# Altium schematic symbol library UltraZOhm_CarrierBoard.SCHLIB: 127 symbols (part 2 of 2)
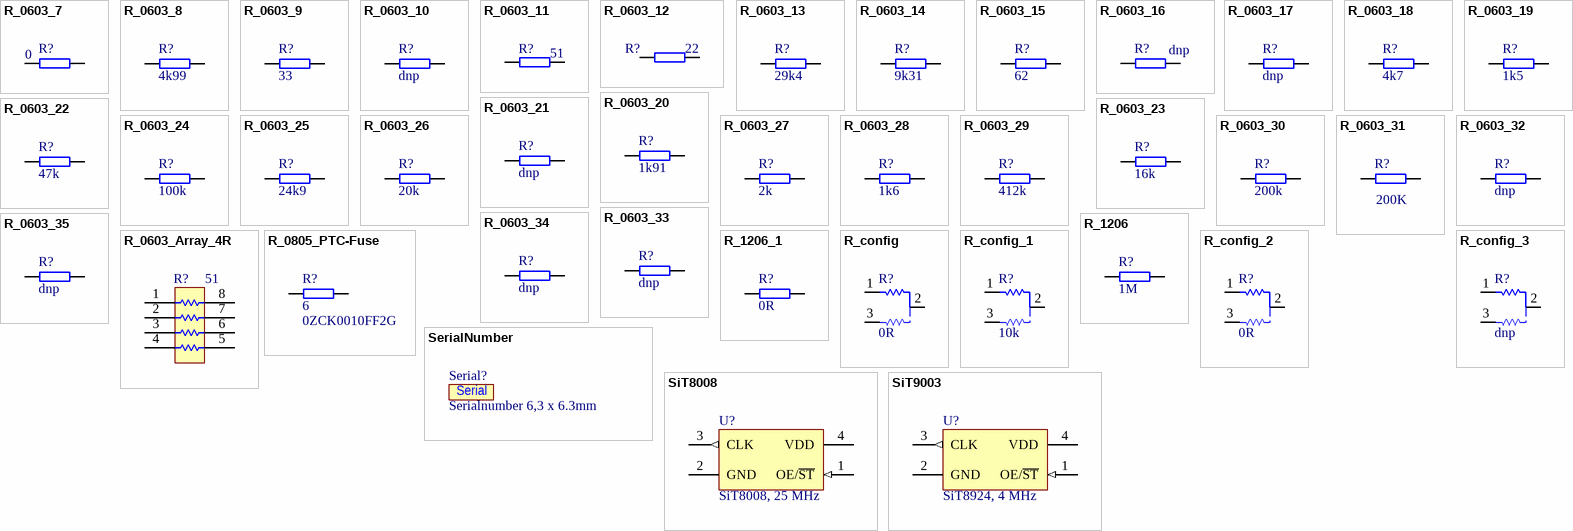
[diagram p5: symbols R_0603_7 to SiT9003]

## R_0603_23
designator R?, comment 16k
SMD Resistor 0603; MPN: CRCW060316K0FKEA; Tolerance: 1%; Voltage: 75V; Power: 100mW; MF: Vishay; Package: 0603; Value: 16k; Created: 2018_09_06_AGeiger; Supplier 1: Farnell; Supplier Part Number 1: 2138433
footprint R_0603_N (SMD Resistor, Body 1.6x0.8mm, IPC Medium Density)
pins: 1, 2

## R_0603_24
designator R?, comment 100k
SMD Resistor 0603; MPN: CRCW0603100KFKEA; Tolerance: ±1%; Voltage: 75V; Power: 100mW; MF: Vishay; Package: 0603; Value: 100k; Created: 2018_09_06_AGeiger; Supplier 1: Farnell; Supplier Part Number 1: 1469649
footprint R_0603_N (SMD Resistor, Body 1.6x0.8mm, IPC Medium Density)
pins: 1, 2

## R_0603_25
designator R?, comment 24k9
SMD Resistor 0603; MPN: CRCW060324K9FKEA; Tolerance: ±1%; Voltage: 75V; Power: 100mW; MF: Vishay; Package: 0603; Value: 24k9; Created: 2018_09_06_AGeiger; Supplier 1: Farnell; Supplier Part Number 1: 1469785
footprint R_0603_N (SMD Resistor, Body 1.6x0.8mm, IPC Medium Density)
pins: 1, 2

## R_0603_26
designator R?, comment 20k
SMD Resistor 0603; MPN: CR0603-FX-2002ELF; Tolerance: ±1%; Voltage: 50V; Power: 100mW; MF: Bourns; Package: 0603; Value: 20k; Created: 2018_09_06_AGeiger; Supplier 1: Farnell; Supplier Part Number 1: 2333523
footprint R_0603_N (SMD Resistor, Body 1.6x0.8mm, IPC Medium Density)
pins: 1, 2

## R_0603_27
designator R?, comment 2k
SMD Resistor 0603; MPN: MCWR06X2001FTL; Tolerance: ±1%; Voltage: 50V; Power: 100mW; MF: Multicomp; Package: 0603; Value: 2k; Created: 2018_09_06_AGeiger; Supplier 1: Farnell; Supplier Part Number 1: 2447319
footprint R_0603_N (SMD Resistor, Body 1.6x0.8mm, IPC Medium Density)
pins: 1, 2

## R_0603_28
designator R?, comment 1k6
SMD Resistor 0603; MPN: ERJ3EKF1601V; Tolerance: ±1%; Voltage: 75V; Power: 100mW; MF: Panasonic; Package: 0603; Value: 1k6; Created: 2018_09_06_AGeiger; Supplier 1: Farnell; Supplier Part Number 1: 2303159
footprint R_0603_N (SMD Resistor, Body 1.6x0.8mm, IPC Medium Density)
pins: 1, 2

## R_0603_29
designator R?, comment 412k
SMD Resistor 0603; MPN: ERJ3EKF4123V; Tolerance: ±1%; Voltage: 75V; Power: 100mW; MF: Panasonic; Package: 0603; Value: 412k; Created: 2018_09_06_AGeiger; Supplier 1: Farnell; Supplier Part Number 1: 2303283
footprint R_0603_N (SMD Resistor, Body 1.6x0.8mm, IPC Medium Density)
pins: 1, 2

## R_0603_30
designator R?, comment 200k
SMD Resistor 0603; MPN: MCWR06X2003FTL; Tolerance: 1%; Voltage: 50V; Power: 100mW; MF: Multicomp; Package: 0603; Value: 200k; Created: 2018_09_06_AGeiger; Supplier 1: Farnell; Supplier Part Number 1: 2447291
footprint R_0603_N (SMD Resistor, Body 1.6x0.8mm, IPC Medium Density)
pins: 1, 2

## R_0603_31
designator R?, comment 200K
SMD Resistor 0603; Tolerance: 1%; Voltage: tbd; Package: 0603; Value: 200K; Created: 2018_09_06_AGeiger; Power: tbd; Supplier 1: *; Supplier Part Number 1: *
footprint R_0603_N (SMD Resistor, Body 1.6x0.8mm, IPC Medium Density)
footprint R_0603_N (SMD Resistor, Body 1.6x0.8mm, IPC Medium Density)
pins: 1, 2

## R_0603_32
designator R?, comment dnp
SMD Resistor 0603; MPN: MCSR06X4991FTL; Value: 4k99; Tolerance: 1%; Voltage: 75V; Power: 100mW; MF: Multicomp; Assembly: dnp; Package: 0603; Created: 2018_09_06_AGeiger; Supplier 1: Farnell; Supplier Part Number 1: 2074271
footprint R_0603_N (SMD Resistor, Body 1.6x0.8mm, IPC Medium Density)
pins: 1, 2

## R_0603_33
designator R?, comment dnp
SMD Resistor 0603; MPN: MCWR06X2200FTL; Value: 220; Tolerance: 1%; Voltage: 50V; Power: 100mW; MF: Multicomp; Package: 0603; Created: 2019_10_12_AGeiger; Supplier 1: Farnell; Supplier Part Number 1: 2447298
footprint R_0603_N (SMD Resistor, Body 1.6x0.8mm, IPC Medium Density)
pins: 1, 2

## R_0603_34
designator R?, comment dnp
SMD Resistor 0603; MPN: MCWR06X2003FTL; Value: 200k; Tolerance: 1%; Voltage: 50V; Power: 100mW; MF: Multicomp; Package: 0603; Created: 2018_09_06_AGeiger; Supplier 1: Farnell; Supplier Part Number 1: 2447291
footprint R_0603_N (SMD Resistor, Body 1.6x0.8mm, IPC Medium Density)
pins: 1, 2

## R_0603_35
designator R?, comment dnp
SMD Resistor 0603; Value: 200K; Tolerance: 1%; Voltage: tbd; Package: 0603; Created: 2018_09_06_AGeiger; Power: tbd; Supplier 1: *; Supplier Part Number 1: *
footprint R_0603_N (SMD Resistor, Body 1.6x0.8mm, IPC Medium Density)
footprint R_0603_N (SMD Resistor, Body 1.6x0.8mm, IPC Medium Density)
pins: 1, 2

## R_0603_Array_4R
designator R?, comment 51
Chip Resistor Array; MPN: EXB-38V510JV; MF: Panasonic; Package: 0603x4-Array; Created: 2018_10_30_AGeiger; Value: 51; Supplier Part Number 1: 667-EXB-38V510JV; Supplier 1: Mouser; ComponentLink1Description: Datasheet; ComponentLink1URL: https://www.mouser.de/datasheet/2/315/AOC0000C14-1108062.pdf
footprint PNSC-EXB-38V103JV-8_L (Chip Array, ConvexS, 8-Leads, Pitch 0.80mm, Body 3.40x1.75mm, IPC High Density)
footprint PNSC-EXB-38V103JV-8_M (Chip Array, ConvexS, 8-Leads, Pitch 0.80mm, Body 3.40x1.75mm, IPC Low Density)
footprint PNSC-EXB-38V103JV-8_N (Chip Array, ConvexS, 8-Leads, Pitch 0.80mm, Body 3.40x1.75mm, IPC Medium Density)
pins: 1, 2, 3, 4, 5, 6, 7, 8

## R_0805_PTC-Fuse
designator R?, comment 6  MPN: 0ZCK0010FF2G
Resettable Fuse PTC, Trip Current 300mA, Current Rating 100mA; MF: Bel Fuse; Value: 6; Created: 2018_09_14_AGeiger; Supplier 1: Mouser; Supplier Part Number 1: 530-0ZCK0010FF2G; HelpURL: https://www.mouser.de/datasheet/2/643/0ZCK_Nov2016-1135081.pdf; Package: 0805
footprint 0805_PTC_FUSE (Surface Mount PTC, Body 2.0x1.2mm, Height 1.0mm, IPC Medium Density)
pins: 1, 2

## R_1206
designator R?, comment 1M
SMD Resistor 1206; MPN: KTR18EZPF1004; Tolerance: ±1%; MF: ROHM; Voltage: 500V; Power: 250mW; Value: 1M; Created: 2018_07_20_AGeiger; Package: 1206; Supplier 1: Farnell; Supplier Part Number 1: 2802466
footprint RESC3216X65N
pins: 1, 2

## R_1206_1
designator R?, comment 0R
SMD Resistor 1206; MPN: MCMR12X000 PTL; Tolerance: ±0.05Ohm; MF: Multicomp; Value: 0R; Created: 2018_07_20_AGeiger; Package: 1206; Supplier 1: Farnell; Supplier Part Number 1: 2073874
footprint RESC3216X65N
pins: 1, 2

## R_config
designator R?, comment 0R
Solder 0603 resistor/jumper between pads 1 and 2 for standard function. Solter resistor between pads 2 and 3 for alternative function; MPN: MCMR06X000 PTL; MF: Multicomp; Voltage: 75V; Power: 100mW; Tolerance: ±0.05Ohm; Created: 2018_09_04_AGeiger; Value: 0R; Package: 0603; Supplier Part Number 1: 2073345; Supplier 1: Farnell
footprint 0603_Config (0603 3-Pin Config Footprint)
pins: 1, 2, 3

## R_config_1
designator R?, comment 10k
Solder 0603 resistor/jumper between pads 1 and 2 for standard function. Solter resistor between pads 2 and 3 for alternative function; MPN: MCWR06X1002FTL; MF: Multicomp; Voltage: 50V; Power: 100mW; Tolerance: 1%; Created: 2018_09_04_AGeiger; Value: 10k; Package: 0603; Supplier Part Number 1: 2447230; Supplier 1: Farnell
footprint 0603_Config (0603 3-Pin Config Footprint)
pins: 1, 2, 3

## R_config_2
designator R?, comment 0R
Solder resistor/jumper between pads 1 and 2 for standard function. Solder resistor between pads 2 and 3 for alternative function; MPN: MCMR12X000 PTL; MF: Multicomp; Tolerance: ±0.05Ohm; Created: 2018_09_04_AGeiger; Value: 0R; Package: 1206; Supplier Part Number 1: 2073874; Supplier 1: Farnell
footprint 0603_Config (0603 3-Pin Config Footprint)
footprint 1206_Config (1206 3-Pin Config Footprint)
pins: 1, 2, 3

## R_config_3
designator R?, comment dnp
Solder 0603 resistor/jumper between pads 1 and 2 for standard function. Solter resistor between pads 2 and 3 for alternative function; MPN: MCWR06X1002FTL; Value: 10k; MF: Multicomp; Voltage: 50V; Power: 100mW; Tolerance: 1%; Assembly: dnp; Created: 2018_09_04_AGeiger; Package: 0603; Supplier Part Number 1: 2447230; Supplier 1: Farnell
footprint 0603_Config (0603 3-Pin Config Footprint)
pins: 1, 2, 3

## SerialNumber
designator Serial?, comment Serialnumber 6,3 x 6.3mm  (no BOM)
Created: 2018_09_18_AGeiger; Value: Serialnumber 6,3 x 6.3mm
footprint Serial_6.3x6.3mm
text: Serial

## SiT8008
designator U?, comment SiT8008, 25 MHz
SiT8008BI-73-18S-25.000000G; Voltage: 1.8V; MF: SiTime; Package: 2.0  x 1.6mm; HelpURL: https://www.sitime.com/products/lvcmos-oscillators/sit8008; Value: SiT8008, 25 MHz; MPN: SIT8008BI-73-18S-25.000000G; Created: 2018_07_17_AGeiger; ComponentLink1Description: Datasheet; ComponentLink1URL: https://4donline.ihs.com/images/VipMasterIC/IC/SIME/SIME-S-A0002505729/SIME-S-A0002505729-1.pdf?hkey=52A5661711E402568146F3353EA87419; Supplier Part Number 2: SIT8008BI-73-18S-25.000000G; Supplier 2: Digi-Key; Supplier 1: Mouser; Supplier Part Number 1: 788-8008BI7318S25.G
footprint 2016
pins: 1 OE/~{ST} (in), 2 GND (power), 3 CLK (out), 4 VDD (power)

## SiT9003
designator U?, comment SiT8924, 4 MHz
Automotive AEC-Q100 Oscillator 4MHz; MPN: SIT8924AM-12-33N-4.000000G; Voltage: 3.3V; MF: SiTime; Package: 2.5  x 2.0mm; ComponentLink1URL: https://media.digikey.com/pdf/Data%20Sheets/SiTime%20PDFs/SIT8924A.pdf; Value: SiT8924, 4 MHz; Created: 2019_10_06_AGeiger; Supplier 1: Digi-Key; Supplier Part Number 1: 1473-1689-1-ND; ComponentLink1Description: Datasheet
footprint 2520_SiTime (Standard Clock Oscillators, 2.5mm x 2mm)
pins: 1 OE/~{ST} (in), 2 GND (power), 3 CLK (out), 4 VDD (power)

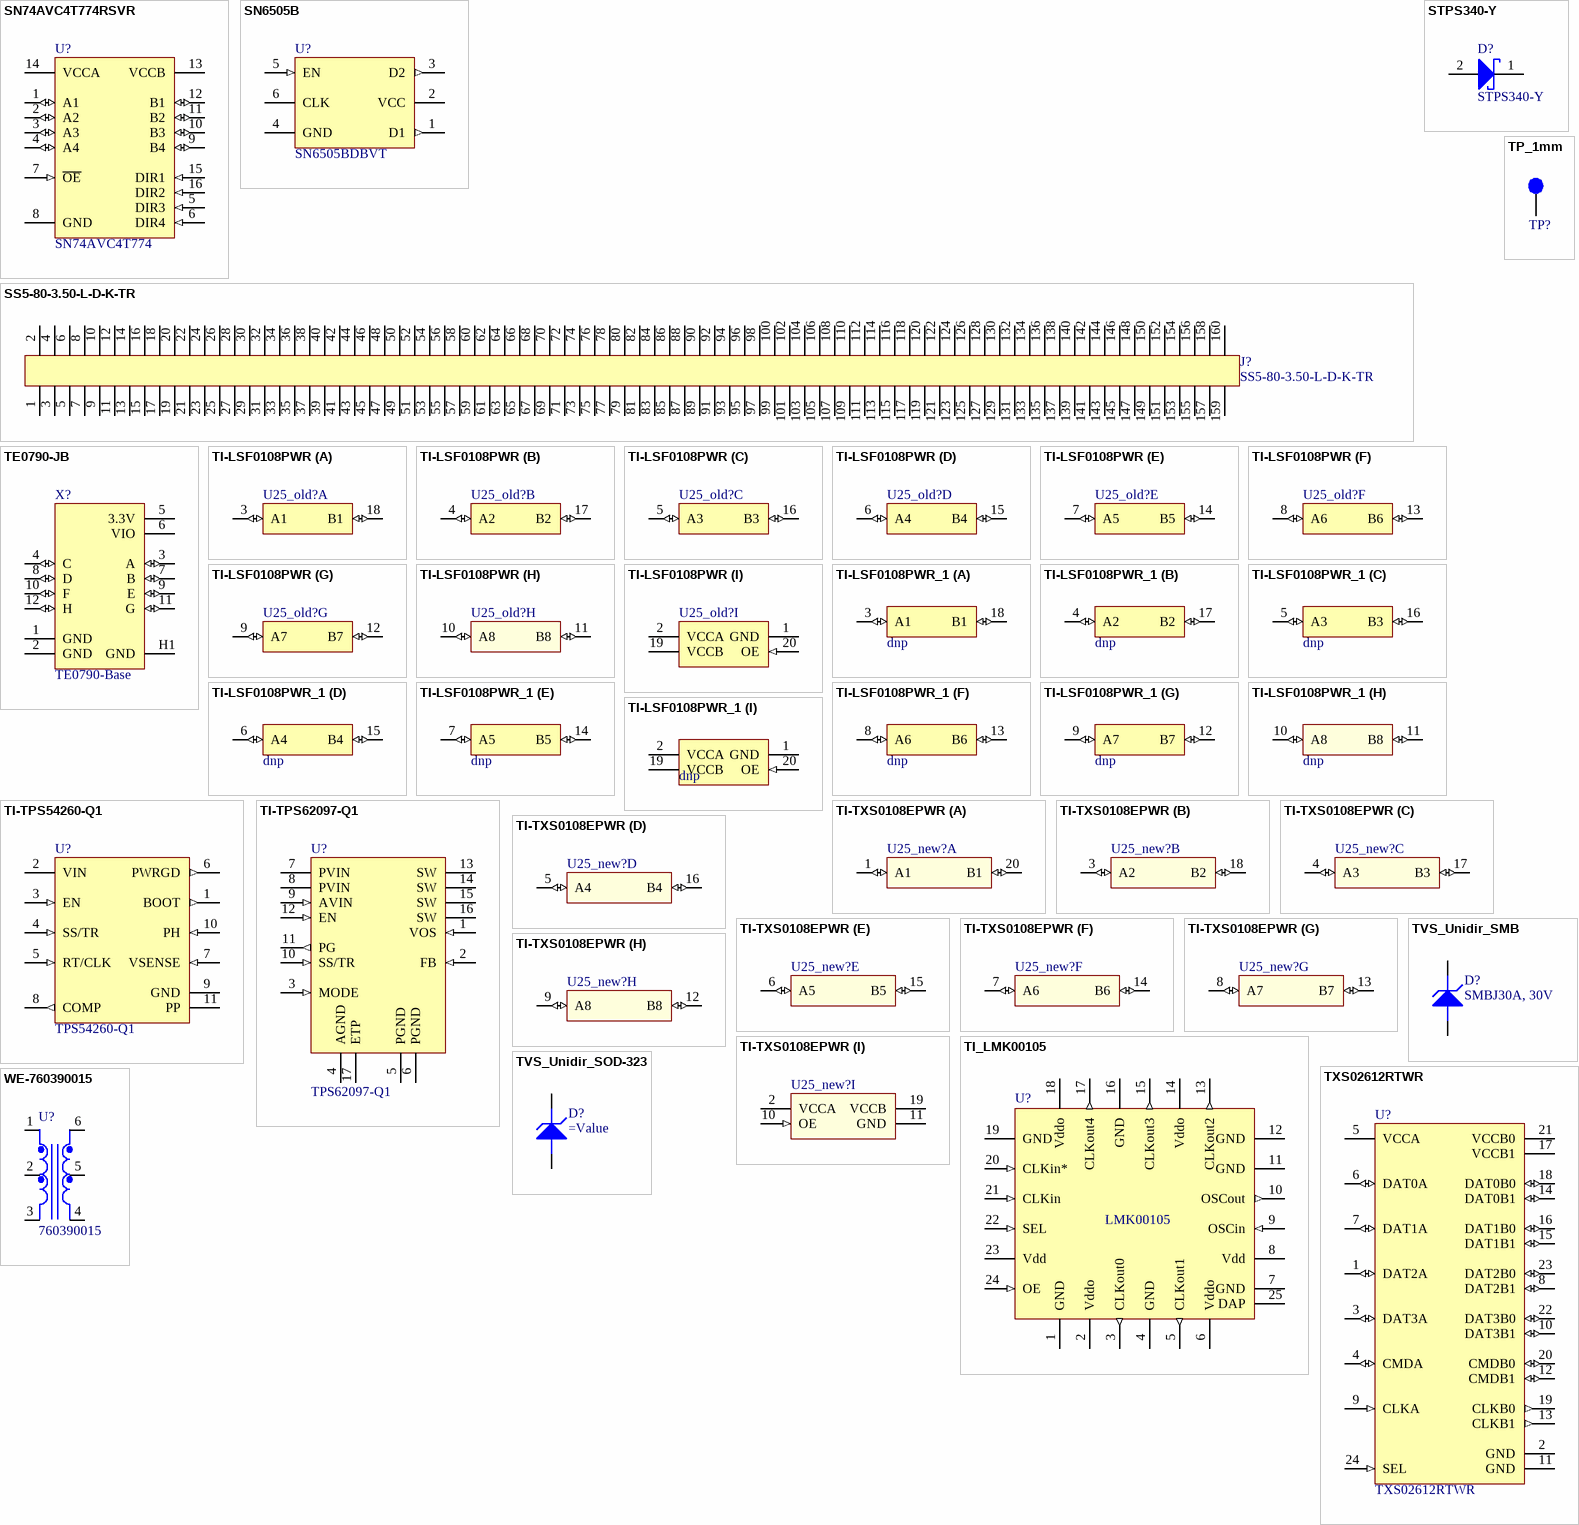
[diagram p3: symbols SN74AVC4T774RSVR to WE-760390015]

## SN74AVC4T774RSVR
designator U?, comment SN74AVC4T774
4-Bit Dual-Supply Bus Transceiver With Configurable Voltage-Level Shifting and 3-State Outputs With Independent Direction Control Inputs; MPN: SN74AVC4T774RSVR; MF: Texas Instruments; Package: UQFN-16; HelpURL: http://www.ti.com/product/SN74AVC4T774; Value: SN74AVC4T774; Created: 2018_09_13_AGeiger; Supplier Part Number 1: 595-SN74AVC4T774RSVR; Supplier 1: Mouser; ComponentLink1Description: Datasheet; ComponentLink1URL: http://www.ti.com/lit/ds/symlink/sn74avc4t774.pdf
footprint QFN40P260X180X55-16N
pins: 1 A1 (io), 2 A2 (io), 3 A3 (io), 4 A4 (io), 5 DIR3 (in), 6 DIR4 (in), 7 ~{OE} (in), 8 GND (power), 9 B4 (io), 10 B3 (io), 11 B2 (io), 12 B1 (io), 13 VCCB (power), 14 VCCA (power), 15 DIR1 (in), 16 DIR2 (in)

## SN6505B
designator U?, comment SN6505BDBVT
SN6505 Low-Noise 1-A Transformer Drivers for Isolated Power Supplies; MF: Texas Instruments; Created: 2018_09_12_AGeiger; Value: SN6505BDBVT; Package: SOT-23 6-pin; Supplier 1: Farnell; Supplier Part Number 1: 2507108; MPN: SN6505BDBVT
footprint TI_SOT23_6-Leads (SOT23, 6-Leads, Body 3.05x1.75mm, Pitch 0.95mm, IPC Medium Density)
pins: 1 D1 (out) "The BOOST pin is used to provide a drive voltage, higher than the input voltage, to the internal bipolar NPN power switch.", 2 VCC (power) "The SW pin is the output of the internal power switch. Connect this pin to the inductor, catch diode and boost capacitor.", 3 D2 (out), 4 GND (power), 5 EN (in), 6 CLK (power)

## SS5-80-3.50-L-D-K-TR
designator J?
Samtec Ultra Fine Pitch Socket REF192552-01, 160 Pins; Value: SS5-80-3.50-L-D-K-TR; Created: 2018_06_25_AGeiger; MF: SAMTEC; MPN: SS5-80-3.50-L-D-K-TR; Supplier Part Number 2: SAM15086CT-ND; Supplier 2: Digi-Key; Supplier Part Number 1: 200-SS5803.50LDKTR; Supplier 1: Mouser
footprint SS5-80-3.50-L-D-K-TR
pins: 1, 2, 3, 4, 5, 6, 7, 8, 9, 10, 11, 12, 13, 14, 15, 16, 17, 18, 19, 20, 21, 22, 23, 24, 25, 26, 27, 28, 29, 30, 31, 32, 33, 34, 35, 36, 37, 38, 39, 40, 41, 42, 43, 44, 45, 46, 47, 48, 49, 50, 51, 52, 53, 54, 55, 56, 57, 58, 59, 60, 61, 62, 63, 64, 65, 66, 67, 68, 69, 70, 71, 72, 73, 74, 75, 76, 77, 78, 79, 80, 81, 82, 83, 84, 85, 86, 87, 88, 89, 90, 91, 92, 93, 94, 95, 96, 97, 98, 99, 100, 101, 102, 103, 104, 105, 106, 107, 108, 109, 110, 111, 112, 113, 114, 115, 116, 117, 118, 119, 120, 121, 122, 123, 124, 125, 126, 127, 128, 129, 130, 131, 132, 133, 134, 135, 136, 137, 138, 139, 140, 141, 142, 143, 144, 145, 146, 147, 148, 149, 150, 151, 152, 153, 154, 155, 156, 157, 158, 159, 160

## STPS340-Y
designator D?
Automotive power Schottky rectifier; MPN: STPS340UY; MF: ST Microelectronics; Package: SMB; Created: 2018_09_20_AGeiger; Supplier 1: Mouser; Supplier Part Number 1: 511-STPS340UY; Value: STPS340-Y; Supplier 2: Digi-Key; Supplier Part Number 2: 497-13432-1-ND; ComponentLink1URL: https://www.mouser.de/datasheet/2/389/stps340-y-956644.pdf; ComponentLink1Description: Datasheet
footprint SMB (DO-214-AA/SMB; 2 C-Bend Leads; Body 5.3 x 3.6 mm, inc. leads (LxW))
pins: 1 K, 2 A

## TE0790-JB
designator X?, comment TE0790-Base
MPN: TE0790-02; MF: Trenz Electronic; Created: 2018_09_04_AGeiger; Value: TE0790-Base; Supplier 1: Trenz Electronic; Supplier 2: Digi-Key; Supplier Part Number 1: TE0790-02; Supplier Part Number 2: 1686-1023-ND
footprint TE0790-Base
pins: 1 GND (power), 2 GND (power), 3 A (io), 4 C (io), 5 3.3V (power), 6 VIO (power), 7 B (io), 8 D (io), 9 E (io), 10 F (io), 11 G (io), 12 H (io), H1 GND (power)

## TI-LSF0108PWR
designator U25_old?, comment LSF0108-Q1  (value not drawn)
Automotive 8-Channel Mulit-Voltage Level Translator; MPN: LSF0108QPWRQ1; MF: Texas Instruments; Value: LSF0108-Q1; Created: 2018_09_17_AGeiger; Supplier 1: Mouser; Supplier Part Number 1: 595-LSF0108QPWRQ1; ComponentLink1Description: Datasheet; ComponentLink1URL: http://www.ti.com/lit/ds/symlink/lsf0108-q1.pdf
footprint TI_PW_R-PDSO-G20_L (SOP, 20-Leads, Body 6.6x4.5mm, Pitch 0.65mm, IPC High Density)
footprint TI_PW_R-PDSO-G20_M (SOP, 20-Leads, Body 6.6x4.5mm, Pitch 0.65mm, IPC Low Density)
footprint TI_PW_R-PDSO-G20_N (SOP, 20-Leads, Body 6.6x4.5mm, Pitch 0.65mm, IPC Medium Density)
part A pins: 3 A1 (io), 18 B1 (io)
part B pins: 4 A2 (io), 17 B2 (io)
part C pins: 5 A3 (io), 16 B3 (io)
part D pins: 6 A4 (io), 15 B4 (io)
part E pins: 7 A5 (io), 14 B5 (io)
part F pins: 8 A6 (io), 13 B6 (io)
part G pins: 9 A7 (io), 12 B7 (io)
part H pins: 10 A8 (io), 11 B8 (io)
part I pins: 1 GND (power), 2 VCCA (power), 19 VCCB (power), 20 OE (in)

## TI-LSF0108PWR_1
designator U25_old?, comment dnp
Automotive 8-Channel Mulit-Voltage Level Translator; MPN: LSF0108QPWRQ1; Value: LSF0108-Q1; MF: Texas Instruments; Created: 2018_09_17_AGeiger; Supplier 1: Mouser; Supplier Part Number 1: 595-LSF0108QPWRQ1; ComponentLink1Description: Datasheet; ComponentLink1URL: http://www.ti.com/lit/ds/symlink/lsf0108-q1.pdf
footprint TI_PW_R-PDSO-G20_L (SOP, 20-Leads, Body 6.6x4.5mm, Pitch 0.65mm, IPC High Density)
footprint TI_PW_R-PDSO-G20_M (SOP, 20-Leads, Body 6.6x4.5mm, Pitch 0.65mm, IPC Low Density)
footprint TI_PW_R-PDSO-G20_N (SOP, 20-Leads, Body 6.6x4.5mm, Pitch 0.65mm, IPC Medium Density)
part A pins: 3 A1 (io), 18 B1 (io)
part B pins: 4 A2 (io), 17 B2 (io)
part C pins: 5 A3 (io), 16 B3 (io)
part D pins: 6 A4 (io), 15 B4 (io)
part E pins: 7 A5 (io), 14 B5 (io)
part F pins: 8 A6 (io), 13 B6 (io)
part G pins: 9 A7 (io), 12 B7 (io)
part H pins: 10 A8 (io), 11 B8 (io)
part I pins: 1 GND (power), 2 VCCA (power), 19 VCCB (power), 20 OE (in)

## TI-TPS54260-Q1
designator U?, comment TPS54260-Q1
3.5V to 60V Step-Down Converter With Eco-mode; MPN: TPS54260QDGQRQ1; MF: Texas Instruments; Created: 2018_09_20_AGeiger; Value: TPS54260-Q1; Supplier Part Number 1: 595-TPS54260QDGQRQ1; Supplier 1: Mouser; Supplier Part Number 2: 296-28183-1-ND; Supplier 2: Digi-Key; ComponentLink1URL: http://www.ti.com/lit/ds/symlink/tps54260-q1.pdf; ComponentLink1Description: Datasheet; Package: HVSSOP-10
footprint TSOP-10_DGQ0010D_L (TSOP, 10-Leads, Body 3.1x3.1mm, Pitch 0.5mm, Thermal Pad 1.88x1.57mm, IPC High Density)
footprint TSOP-10_DGQ0010D_M (TSOP, 10-Leads, Body 3.1x3.1mm, Pitch 0.5mm, Thermal Pad 1.88x1.57mm, IPC Low Density)
footprint TSOP-10_DGQ0010D_N (TSOP, 10-Leads, Body 3.1x3.1mm, Pitch 0.5mm, Thermal Pad 1.88x1.57mm, IPC Medium Density)
pins: 1 BOOT (out) "A bootstrap capacitor is required between BOOT and PH. If the voltage on this capacitor is below the minimum required by the output device, the output is forced to switch off until the capacitor is refreshed.", 2 VIN (power) "Input supply voltage, 3.5 V to 60 V.", 3 EN (in) "Enable pin, internal pull-up current source. Pull below 1.2V to disable. Float to enable. Adjust the input undervoltage lockout with two resistors.", 4 SS/TR (in) "Slow-start and Tracking. An external capacitor connected to this pin sets the output rise time. Since the voltage on this pin overrides the internal reference, it can be used for tracking and sequencing.", 5 RT/CLK (in) "Resistor Timing and External Clock. An internal amplifier holds this pin at a fixed voltage when using an external resistor to ground to set the switching frequency. If the pin is pulled above the PLL upper threshold, a mode (See Datasheet)", 6 PWRGD (out) "An open drain output, asserts low if output voltage is low due to thermal shutdown, dropout, over-voltage or EN shut down.", 7 VSENSE (in) "Inverting node of the transconductance ( gm) error amplifier.", 8 COMP (out) "Error amplifier output, and input to the output switch current comparator. Connect frequency compensation components to this pin.", 9 GND (power) "Ground", 10 PH (in) "The source of the internal high-side power MOSFET.", 11 PP (power) "GND pin must be electrically connected to the exposed pad on the printed circuit board for proper operation."

## TI-TPS62097-Q1
designator U?, comment TPS62097-Q1
2A High Efficiency Step-Down Converter in Wettable Flanks QFN Package; MPN: TPS62097QWRGTRQ1; MF: Texas Instruments; Created: 2018_09_18_AGeiger; Supplier 1: Farnell; Supplier Part Number 1: 2851313; Supplier 2: Mouser; Supplier Part Number 2: 595-TPS62097QWRGTRQ1; Supplier 3: Digi-Key; Supplier Part Number 3: 296-48349-1-ND; Package: VQFN-16 (RGT Package with Wettable Flanks); ComponentLink1URL: http://www.ti.com/lit/ds/symlink/tps62097-q1.pdf; ComponentLink1Description: Datasheet; Value: TPS62097-Q1
footprint QFN-16_TI (QFN, 16-Leads, Body 3x3mm, Pitch 0.5mm, Thermal Pad 1.65x1.65mm)
pins: 1 VOS (in), 2 FB (in), 3 MODE (in), 4 AGND (power) "Output power good (High = VOUT ready, Low = VOUT below nominal regulation) ; open drain (requires pull-up resistor; goes high impedance, when device is switched off)", 5 PGND (power), 6 PGND (power), 7 PVIN (power), 8 PVIN (power), 9 AVIN (in), 10 SS/TR (in), 11 PG (out), 12 EN (in), 13 SW (power), 14 SW (power), 15 SW (power), 16 SW (power), 17 ETP "The exposed thermal pad is connected to AGND. It must be soldered to achieve appropriate power dissipation and mechanical reliability."

## TI-TXS0108EPWR
designator U25_new?, comment TXS0108EQPWRQ1  (value not drawn)
8 Bit bidirictional level shifter with integrated pull up resistors and one shot output circuit; Max Voltage: 3.6; MF: Texas Instruments; ComponentLink1Description: Datasheet; ComponentLink1URL: http://www.ti.com/lit/gpn/txs0108e-q1; Created: 2020-05-05_Thilo_Wendt; HelpURL: http://www.ti.com/product/TXS0108E-Q1?keyMatch=TXS0108&tisearch=Search-EN-everything&usecase=part-number; MPN: TXS0108EQPWRQ1; Supplier 1: Mouser; Supplier Part Number 1: 595-TXS0108EQPWRQ1; Supplier 2: RS; Supplier 3: Digi-Key; Supplier Part Number 2: 709-4639; Supplier Part Number 3: 296-23011-1-ND; Value: TXS0108EQPWRQ1
footprint TI_PW_R-PDSO-G20_L (SOP, 20-Leads, Body 6.6x4.5mm, Pitch 0.65mm, IPC High Density)
footprint TI_PW_R-PDSO-G20_M (SOP, 20-Leads, Body 6.6x4.5mm, Pitch 0.65mm, IPC Low Density)
footprint TI_PW_R-PDSO-G20_N (SOP, 20-Leads, Body 6.6x4.5mm, Pitch 0.65mm, IPC Medium Density)
part A pins: 1 A1 (io), 20 B1 (io)
part B pins: 3 A2 (io), 18 B2 (io)
part C pins: 4 A3 (io), 17 B3 (io)
part D pins: 5 A4 (io), 16 B4 (io)
part E pins: 6 A5 (io), 15 B5 (io)
part F pins: 7 A6 (io), 14 B6 (io)
part G pins: 8 A7 (io), 13 B7 (io)
part H pins: 9 A8 (io), 12 B8 (io)
part I pins: 2 VCCA (power), 10 OE (in), 11 GND (power), 19 VCCB (power)

## TI_LMK00105
designator U?, comment LMK00105
Ultra-Low Jitter LVCMOS Fanout Buffer ad Level Translator With Universal Input; MPN: LMK00105SQ/NOPB; MF: Texas Instruments; Package: WQFN-24; Created: 2018_12_19_AGeiger; Value: LMK00105; Supplier 2: Mouser; Supplier 1: Farnell; Supplier 3: Digi-Key; Supplier Part Number 1: 2492236; Supplier Part Number 3: 296-35192-1-ND; Supplier Part Number 2: 926-LMK00105SQ/NOPB
footprint WQFN24-24_TI (QFN, 24-Leads, Body 4x4mm, Pitch 0.5mm, Thermal Pad 2.6x2.6mm)
pins: 1 GND, 2 Vddo, 3 CLKout0 (out), 4 GND, 5 CLKout1 (out), 6 Vddo (power), 7 GND, 8 Vdd (power), 9 OSCin (in), 10 OSCout (out), 11 GND, 12 GND, 13 CLKout2 (out), 14 Vddo (power), 15 CLKout3 (out), 16 GND "Port 1 I/O 6", 17 CLKout4 (out), 18 Vddo (power), 19 GND, 20 CLKin* (in), 21 CLKin (in), 22 SEL (in), 23 Vdd (power), 24 OE (in), 25 DAP

## TP_1mm
designator TP?, comment Testpoint 1mm  (value not drawn)  (no BOM)
Created: 2018_06_25_AGeiger; Value: Testpoint 1mm
footprint TP_1mm
pins: 1

## TVS_Unidir_SMB
designator D?, comment SMBJ30A, 30V
TVS, Unidirectional, 600W; MF: Fairchild; Package: SMB DO-214AA; MPN: SMBJ30A; Created: 2019_09_14_AGeiger; Value: SMBJ30A, 30V; Supplier 1: Mouser; Supplier Part Number 1: 512-SMBJ30A; ComponentLink1URL: https://www.mouser.de/datasheet/2/308/SMBJ30A-1297653.pdf; ComponentLink1Description: Datasheet
footprint DIOM5236X261N
pins: 1 KATHODE, 2 ANODE

## TVS_Unidir_SOD-323
designator D?
Ultra Low Capacitance TVS Array, Unidirectional; MPN: CDSOD323-T03SC; MF: Bourns; Value: CDSOD323-T03SC; Breakdown Voltage: 4 V; Qualification: AEC-Q101; Package: SOD-323; Created: 2019_09_14_AGeiger; Supplier 1: Farnell; Supplier Part Number 1: 2341910; ComponentLink1URL: https://www.mouser.de/datasheet/2/54/dsod323-txxsc-777083.pdf; ComponentLink1Description: Datasheet; Supplier 2: Mouser; Supplier 3: Digi-Key; Supplier Part Number 2: 652-CDSOD323-T03SC; Supplier Part Number 3: CDSOD323-T03SCCT-ND
footprint SOD-323_STMicroelectronics (SOD, 2-Leads, Body 1.7x1.25mm)
pins: 1 KATHODE, 2 ANODE

## TXS02612RTWR
designator U?
MF: Texas Instruments; Package: QFN24; HelpURL: http://www.ti.com/product/TXS02612/samplebuy?CMP=conv-poasamples#samplebuy; Value: TXS02612RTWR; Created: 2018_06_25_AGeiger; MPN: TXS02612RTWR; Supplier 1: Farnell; Supplier Part Number 1: 2335617RL; Supplier 2: Mouser; Supplier Part Number 2: 595-TXS02612RTWR; Supplier 3: Digi-Key; Supplier Part Number 3: 296-23869-1-ND; ComponentLink1URL: http://www.ti.com/lit/ds/symlink/txs02612.pdf; ComponentLink1Description: Datasheet
footprint QFN50P400X400X80-25N-255 (QFN, 24-Leads, Body 4,1x4,1mm (max), Pitch 0,50mm, IPC Medium Density)
pins: 1 DAT2A (io) "Data bit 2. Referenced to VCCA.", 2 GND (power) "Ground", 3 DAT3A (io) "Data bit 3. Referenced to VCCA.", 4 CMDA (io) "Command bit. Referenced to VCCA.", 5 VCCA (power) "A-port supply voltage. 1.1 V = VCCA = 3.6 V.", 6 DAT0A (io) "Data bit 0. Referenced to VCCA.", 7 DAT1A (io) "Data bit 1. Referenced to VCCA.", 8 DAT2B1 (io) "Data bit 2. Referenced to VCCB1.", 9 CLKA (in) "Clock input A. Referenced to VCCA.", 10 DAT3B1 (io) "Data bit 3. Referenced to VCCB1.", 11 GND (power) "Ground", 12 CMDB1 (io) "Command bit. Referenced to VCCB1.", 13 CLKB1 (out) "Clock output. Referenced to VCCB1.", 14 DAT0B1 (io) "Data bit 0. Referenced to VCCB1.", 15 DAT1B1 (io) "Data bit 1. Referenced to VCCB1.", 16 DAT1B0 (io) "Data bit 1. Referenced to VCCB0.", 17 VCCB1 (power) "B1-port supply voltage. 1.1 V = VCCB1 = 3.6 V.", 18 DAT0B0 (io) "Data bit 0. Referenced to VCCB0.", 19 CLKB0 (out) "Clock output. Referenced to VCCB0.", 20 CMDB0 (io) "Command bit. Referenced to VCCB0.", 21 VCCB0 (power) "B0-port supply voltage. 1.1 V = VCCB0 = 3.6 V.", 22 DAT3B0 (io) "Data bit 3. Referenced to VCCB0.", 23 DAT2B0 (io) "Data bit 2. Referenced to VCCB0.", 24 SEL (in) "Select pin to choose between B0 and B1. Referenced to VCCA."

## WE-760390015
designator U?, comment 760390015
MID-PPTI Push-Pull Transformers for Texas Instruments; MF: Wuerth Elektronik; Value: 760390015; Created: 2018_09_12_AGeiger; MPN: 760390015; Supplier 2: Digi-Key; Supplier 1: Mouser; Supplier Part Number 1: 710-760390015; Supplier Part Number 2: 732-4459-1-ND; ComponentLink1URL: https://www.mouser.de/datasheet/2/445/760390015-221218.pdf; ComponentLink1Description: Datasheet
footprint WE-760390015
pins: 1, 2, 3, 4, 5, 6

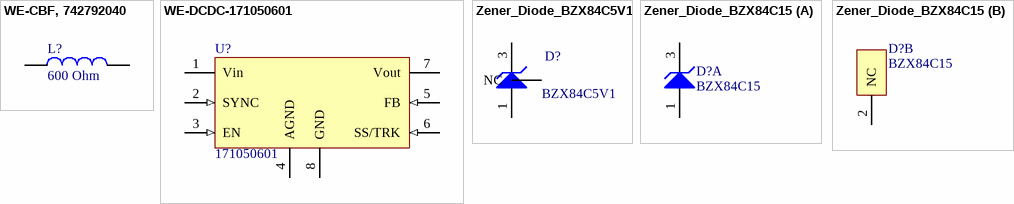
[diagram p4: symbols WE-CBF, 742792040 to Zener_Diode_BZX84C15]

## WE-CBF, 742792040
designator L?, comment 600 Ohm
WE-CBF SMD EMI Suppression Ferrite Bead, 0805, 600 Ohm; MPN: 742792040; Type: High Current; MF: Wuerth Elektronik; PublishedDate: Aug 2016; ComponentLink1Description: Manufacturer; ComponentLink1URL: http://www.we-online.de; ComponentLink2Description: Datasheet; ComponentLink2URL: http://katalog.we-online.de/pbs/datasheet/742792040.pdf; Value: 600 Ohm; Created: 2018_09_11_AGeiger; Package: 0805; Supplier 1: Mouser; Supplier Part Number 1: 710-742792040; Supplier 2: Digi-Key; Supplier Part Number 2: 732-1620-1-ND
footprint WE-CBF_0805_High Current
pins: 1, 2

## WE-DCDC-171050601
designator U?, comment 171050601
DC/DC VIN = 6V-36V, 5A, VOUT = 0.8V-6V; MF: Wuerth Elektronik; HelpURL: https://katalog.we-online.de/de/pm/MAGIC-VDRM/171050601?m=n&sp=https%3A%2F%2Fwww.we-online.de%2Fweb%2Fde%2Felectronic_components%2Fsearchpage_PBS.php%3Fsearch%3D171050601#vs_ct:1; Value: 171050601; Created: 2018_09_06_AGeiger; Supplier Part Number 1: 710-171050601; Supplier 1: Mouser; ComponentLink1URL: https://www.mouser.de/datasheet/2/445/171050601-336102.pdf; ComponentLink1Description: Datasheet; MPN: 171050601; Package: TO263-7EP
footprint 7TO-PMOD
pins: 1 Vin (power), 2 SYNC (in), 3 EN (in), 4 AGND (power), 5 FB (in), 6 SS/TRK (in), 7 Vout (power), 8 GND (power)

## Zener_Diode_BZX84C5V1
designator D?, comment BZX84C5V1
Zener Voltage Regulator, 250 mW, 3-Pin SOT-23; MPN: BZX84C5V1LT1G; MF: On Semiconductor; Packing: Tape and Reel; ComponentLink3URL: http://www.onsemi.cn/pub_link/Collateral/318-08.PDF; DatasheetVersion: Rev. 17; ComponentLink3Description: Package Specification; ComponentLink2Description: Datasheet; ComponentLink2URL: http://www.onsemi.com/pub_link/Collateral/BZX84C2V4LT1-D.PDF; PackageVersion: Rev. AP, 11/2009; PackageReference: SOT-23-3-318-08; ComponentLink1Description: Manufacturer URL; ComponentLink1URL: http://www.onsemi.com/; Mounting Technology: Surface Mount; PackageDescription: 3-Pin Small Outline Transistor, Body 2.92 x 1.3 mm, Pitch 0.95 mm; RoHS: Pb-Free; Value: BZX84C5V1; Created: 2018_09_13_AGeiger; Supplier 1: Mouser; Supplier Part Number 1: 863-BZX84C5V1LT1G
footprint SOT-23-3_ONSC (SOT23, 3-Leads, Body 2.92x1.3mm, Pitch 0.95mm)
pins: 1 A, 2 NC, 3 K

## Zener_Diode_BZX84C15
designator D?, comment BZX84C15
Zener Voltage Regulator, 225 mW, 3-Pin SOT-23; MPN: BZX84C15LT1G; MF: On Semiconductor; ComponentLink3URL: http://www.onsemi.cn/pub_link/Collateral/318-08.PDF; ComponentLink3Description: Package Specification; ComponentLink2Description: Datasheet; ComponentLink2URL: http://www.onsemi.com/pub_link/Collateral/BZX84C2V4LT1-D.PDF; ComponentLink1Description: Manufacturer URL; ComponentLink1URL: http://www.onsemi.com/; Mounting Technology: Surface Mount; PackageDescription: 3-Pin Small Outline Transistor, Body 2.92 x 1.3 mm, Pitch 0.95 mm; Created: 2018_09_17_AGeiger; Value: BZX84C15; Supplier 1: Mouser; Supplier Part Number 1: 863-BZX84C15LT1G; Supplier 2: Digi-Key; Supplier Part Number 2: BZX84C15LT1GOSCT-ND; Supplier 3: Farnell; Supplier Part Number 3: 1651578; Package: SOT-23
footprint SOT-23-3_ONSC (SOT23, 3-Leads, Body 2.92x1.3mm, Pitch 0.95mm)
part A pins: 1 A, 3 K
part B pins: 2 NC